# Altium footprint library SSW-111-01-T-S.PcbLib: 1 footprints
Each footprint in its own frame and in the unit in brackets; x right, y up, seen from the top. Pads: shape width x height; smd on the part's side, far side on the other; paste and mask are expansions set on the pad; w line width, h text height; cw(c..) or ccw(c..) is an arc to the next point about the centre after c.
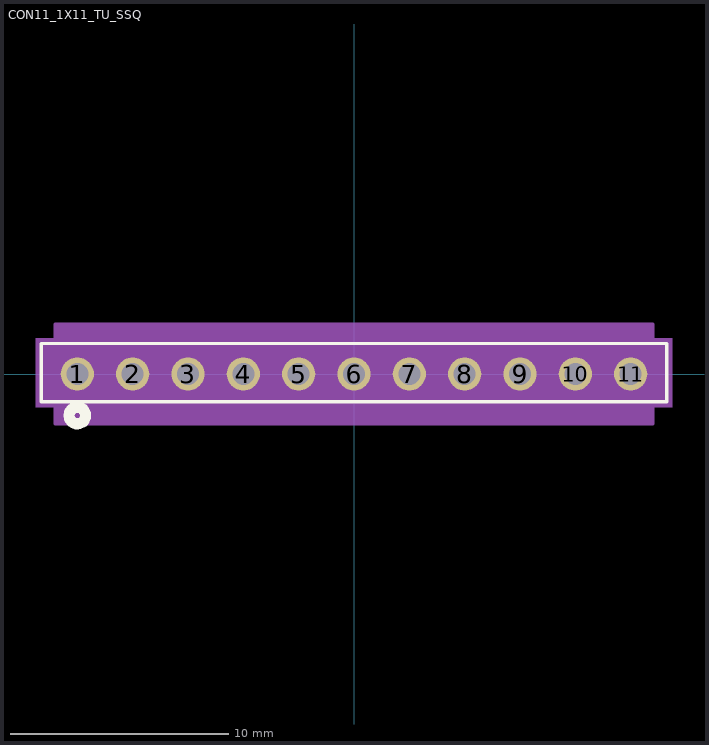
[diagram p0: the footprint, top view; thin cyan lines are the x and y axes]

## CON11_1X11_TU_SSQ [mil]
pads (11):
  round 60 hole 40 mask+0: 1(-500,0) 2(-400,0) 3(-300,0) 4(-200,0) 5(-100,0) 6(0,0) 7(100,0) 8(200,0) 9(300,0) 10(400,0) 11(500,0)
Top Overlay:
  circle w20: c-500,-75 r15
  lines w6: -565,-50 565,-50 565,55 -565,55 -565,-50
Bottom Overlay:
  circle w20: c-500,-75 r15
Mechanical 5:
  region: -575,65 575,65 575,-60 -575,-60
Mechanical 13:
  circle w0: c-500,0 r10
  lines w1: -560,-45 560,-45 560,50 -560,50 -560,-45
Mechanical 15:
  region: 570,60 540,60 540,90 -540,90 -540,60 -570,60 -570,-55 -540,-55 -540,-90 540,-90 540,-55 570,-55
  lines w6: -570,-55 -570,60 -540,60 -540,90 540,90 540,60 570,60 570,-55 540,-55 540,-90 -540,-90 -540,-55 -570,-55
3D body: height 10, standoff 0, extent 0,0 10,10